# EAGLE library part BG120-10-A-0-N-D (library BMC components)
BG120-10-A-0-N-D: 2.54mm PITCH SOCKET, DUAL ROW, SURFACE MOUNT, VERTICAL Datasheet: http://www.globalconnectortechnology.com/pcb-board-to-board/pdf/BG120.pdf
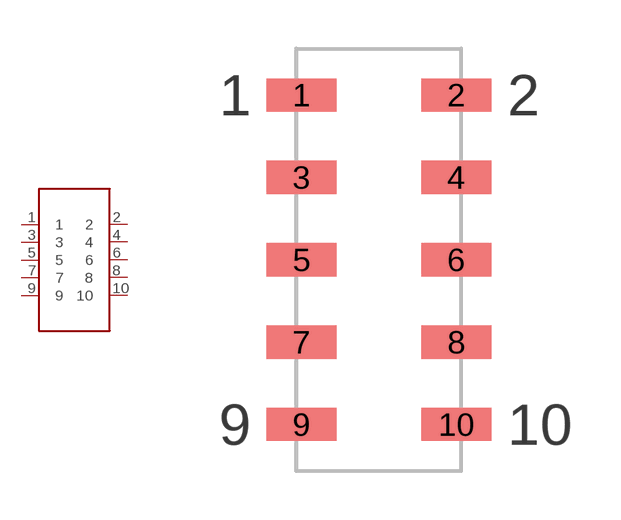
[diagram p14: symbol with the pads of BG120-10-A-0-N-D; footprint BG120-10-A-0-N-D]

Designator prefix -

## BG120-10-A-0-N-D  [BG120-10-A-0-N-D]
1  1
2  2
3  3
4  4
5  5
6  6
7  7
8  8
9  9
10  10

## Footprint BG120-10-A-0-N-D (pad centres in mm)
smd 2.15 x 1.02: 1 -2.54,5.08; 2 2.235,5.08; 3 -2.54,2.54; 4 2.235,2.54; 5 -2.54,0; 6 2.235,0; 7 -2.54,-2.54; 8 2.235,-2.54; 9 -2.54,-5.08; 10 2.235,-5.08